# Altium footprint library DEA202450BT-1294C1-H.PcbLib: 1 footprints
Each footprint in its own frame and in the unit in brackets; x right, y up, seen from the top. Pads: shape width x height; smd on the part's side, far side on the other; paste and mask are expansions set on the pad; w line width, h text height; cw(c..) or ccw(c..) is an arc to the next point about the centre after c.
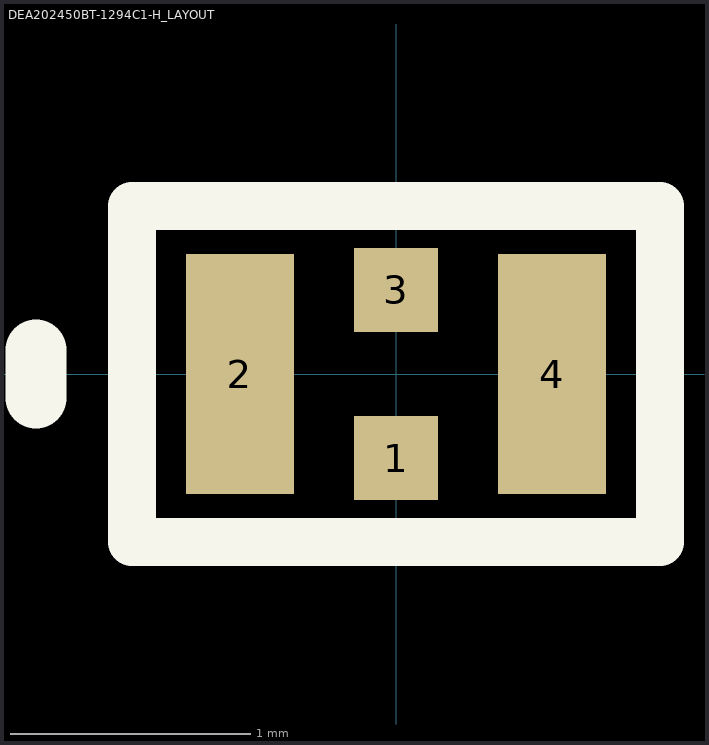
[diagram p0: the footprint, top view; thin cyan lines are the x and y axes]

## DEA202450BT-1294C1-H_LAYOUT [mm]
pads (4):
  rect 0.35x0.35 smd: 1(0,-0.35) 3(0,0.35)
  rect 0.45x1 smd: 2(-0.65,0) 4(0.65,0)
Top Overlay:
  lines w0.2: -1.1,-0.7 1.1,-0.7 1.1,0 1.1,0.7 0,0.7 -1.1,0.7 -1.1,0 -1.1,-0.7
  lines w0.254: -1.5,-0.1 -1.5,0.1
3D body: height 0.9, standoff 0.1, extent -1.1,-0.7 1.1,0.7